# Altium schematic symbol library common-library.SchLib: 191 symbols
Pins are listed as number, name and electrical type; pins without a type are passive.

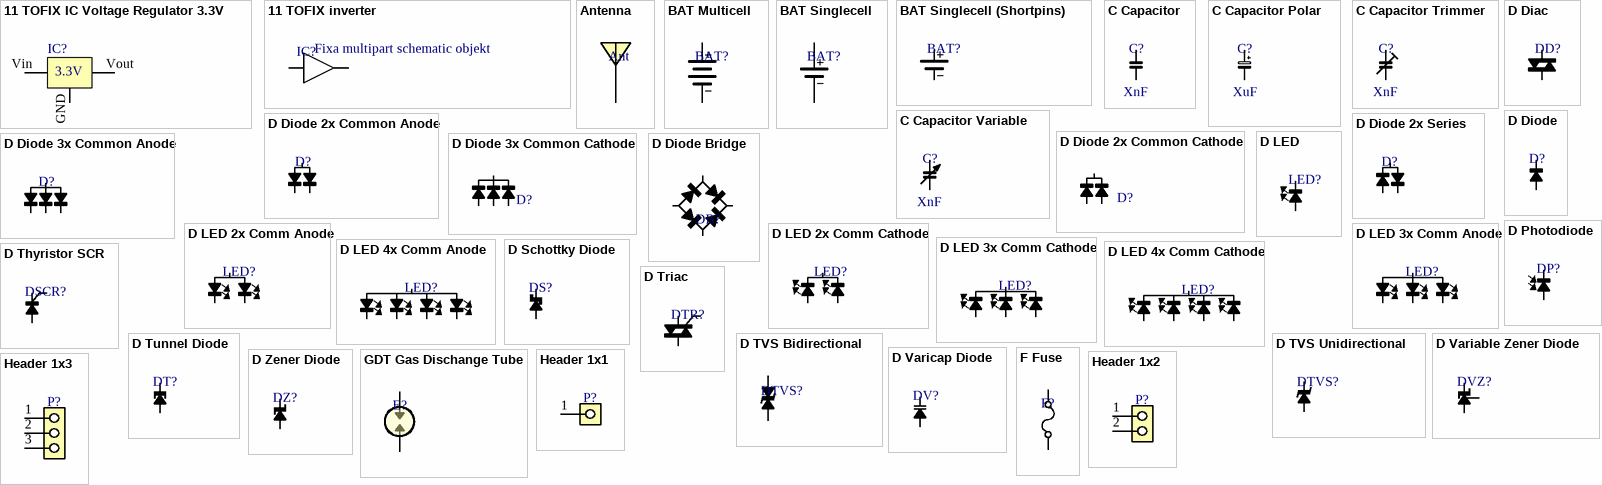
[diagram p0: symbols 11 TOFIX IC Voltage Regulator 3.3V to Header 1x3]

## 11 TOFIX IC Voltage Regulator 3.3V
designator IC?  value 3.3V
pins: GND, Vin, Vout

## 11 TOFIX inverter
designator IC?
pins: 1, 2
text: Fixa multipart schematic objekt

## Antenna
designator Ant
pins: 1 ANT

## BAT Multicell
designator BAT?
pins: 1, 2

## BAT Singlecell
designator BAT?
pins: 1, 2

## BAT Singlecell (Shortpins)
designator BAT?
pins: 1, 2

## C Capacitor
designator C?  value XnF
pins: 1, 2

## C Capacitor Polar
designator C?  value XuF
pins: 1, 2

## C Capacitor Trimmer
designator C?  value XnF
pins: 1, 2

## C Capacitor Variable
designator C?  value XnF
pins: 1, 2

## D Diac
designator DD?
pins: 1, 2

## D Diode
designator D?
pins: 1 K, 2 A

## D Diode 2x Common Anode
designator D?
pins: 1 K1, 2 K2, 3 A

## D Diode 2x Common Cathode
designator D?
pins: 1 A1, 2 A2, 3 K

## D Diode 2x Series
designator D?
pins: 1 K, 2 A, 3

## D Diode 3x Common Anode
designator D?
pins: 1 K1, 2 K2, 3 K3, 4 A

## D Diode 3x Common Cathode
designator D?
pins: 1 A1, 2 A2, 3 A3, 4 K

## D Diode Bridge
designator DB?
pins: 1, 2, 3, 4

## D LED
designator LED?
pins: 1 K, 2 A

## D LED 2x Comm Anode
designator LED?
pins: 1 K1, 2 K2, 3 A

## D LED 2x Comm Cathode
designator LED?
pins: 1 A1, 2 A2, 3 K

## D LED 3x Comm Anode
designator LED?
pins: 1 K1, 2 K2, 3 K3, 4 A

## D LED 3x Comm Cathode
designator LED?
pins: 1 A1, 2 A2, 3 A3, 4 K

## D LED 4x Comm Anode
designator LED?
pins: 1 K1, 2 K2, 3 K3, 4 K4, 5 A

## D LED 4x Comm Cathode
designator LED?
pins: 1 A1, 2 A2, 3 A3, 4 A4, 5 K

## D Photodiode
designator DP?
pins: 1 K, 2 A

## D Schottky Diode
designator DS?
pins: 1 K, 2 A

## D Thyristor SCR
designator DSCR?
pins: 1 C, 2 A, 3 G

## D Triac
designator DTR?
pins: 1, 2, 3

## D Tunnel Diode
designator DT?
pins: 1 K, 2 A

## D TVS Bidirectional
designator DTVS?
Value: 10V
pins: 1, 2

## D TVS Unidirectional
designator DTVS?
Value: 10V
pins: 1 K, 2 A

## D Variable Zener Diode
designator DVZ?
pins: 1 K, 1 K, 2 A

## D Varicap Diode
designator DV?
pins: 1 K, 2 A

## D Zener Diode
designator DZ?, comment BZX  (value not drawn)
Value: 10V
pins: 1 K, 2 A

## F Fuse
designator F?
pins: 1, 2

## GDT Gas Dischange Tube
designator E?  (value not drawn)
pins: 1, 2

## Header 1x1
designator P?
pins: 1

## Header 1x2
designator P?
pins: 1, 2

## Header 1x3
designator P?
pins: 1, 2, 3

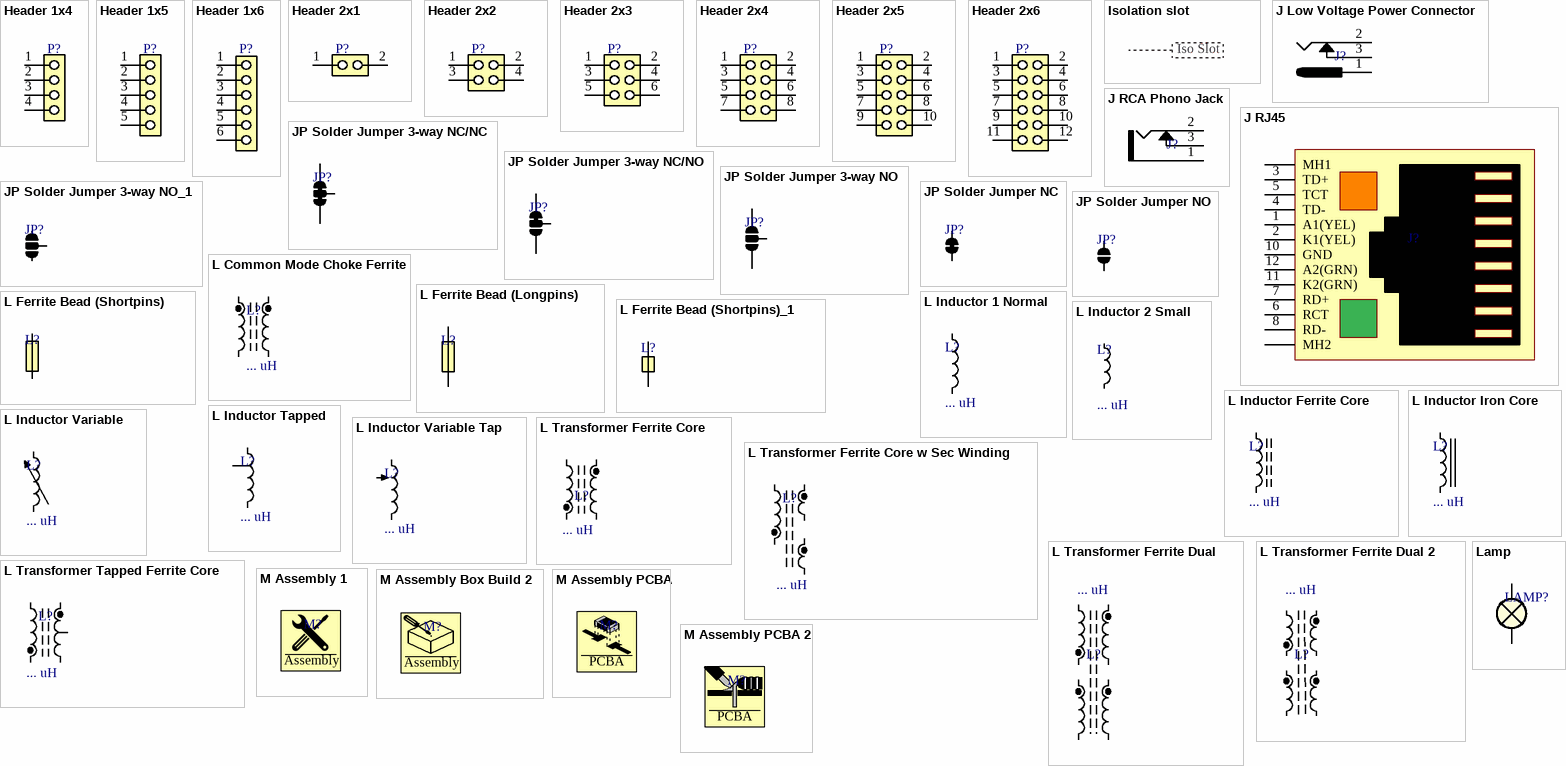
[diagram p1: symbols Header 1x4 to M Assembly PCBA 2]

## Header 1x4
designator P?
pins: 1, 2, 3, 4

## Header 1x5
designator P?
pins: 1, 2, 3, 4, 5

## Header 1x6
designator P?
pins: 1, 2, 3, 4, 5, 6

## Header 2x1
designator P?
pins: 1, 2

## Header 2x2
designator P?
pins: 1, 2, 3, 4

## Header 2x3
designator P?
pins: 1, 2, 3, 4, 5, 6

## Header 2x4
designator P?
pins: 1, 2, 3, 4, 5, 6, 7, 8

## Header 2x5
designator P?
pins: 1, 2, 3, 4, 5, 6, 7, 8, 9, 10

## Header 2x6
designator P?
pins: 1, 2, 3, 4, 5, 6, 7, 8, 9, 10, 11, 12

## Isolation slot
designator *  (value not drawn)  (mechanical)
text: Iso Slot

## J Low Voltage Power Connector
designator J?
pins: 1, 2, 3

## J RCA Phono Jack
designator J?
pins: 1, 2, 3

## J RJ45
designator J?  (value not drawn)
pins: 1 A1(YEL), 2 K1(YEL), 3 TD+, 4 TD-, 5 TCT, 6 RCT, 7 RD+, 8 RD-, 10 GND, 11 K2(GRN), 12 A2(GRN), MH1, MH2

## JP Solder Jumper 3-way NC/NC
designator JP?  (value not drawn)
pins: 1, 2, 3

## JP Solder Jumper 3-way NC/NO
designator JP?
pins: 1, 2, 3

## JP Solder Jumper 3-way NO
designator JP?
pins: 1, 2, 3

## JP Solder Jumper 3-way NO_1
designator JP?
pins: 1, 2, 3

## JP Solder Jumper NC
designator JP?
pins: 1, 2

## JP Solder Jumper NO
designator JP?
pins: 1, 2

## L Common Mode Choke Ferrite
designator L?  value ... uH
pins: 1, 2, 3, 4

## L Ferrite Bead (Longpins)
designator L?
Value: xxk
pins: 1, 2

## L Ferrite Bead (Shortpins)
designator L?
Value: xxk
pins: 1, 2

## L Ferrite Bead (Shortpins)_1
designator L?
Value: xxk
pins: 1, 2

## L Inductor 1 Normal
designator L?  value ... uH
pins: 1, 2

## L Inductor 2 Small
designator L?  value ... uH
pins: 1, 2

## L Inductor Ferrite Core
designator L?  value ... uH
pins: 1, 2

## L Inductor Iron Core
designator L?  value ... uH
pins: 1, 2

## L Inductor Tapped
designator L?  value ... uH
pins: 1, 2, 3

## L Inductor Variable
designator L?  value ... uH
pins: 1, 2

## L Inductor Variable Tap
designator L?  value ... uH
pins: 1, 2, 3

## L Transformer Ferrite Core
designator L?  value ... uH
pins: 1, 2, 3, 4

## L Transformer Ferrite Core w Sec Winding
designator L?  value ... uH
pins: 1, 2, 3, 4, 5, 6

## L Transformer Ferrite Dual
designator L?  value ... uH
pins: 1, 2, 3, 4, 5, 6, 7, 8

## L Transformer Ferrite Dual 2
designator L?  value ... uH
pins: 1, 2, 3, 4, 5, 6, 7, 8

## L Transformer Tapped Ferrite Core
designator L?  value ... uH
pins: 1, 2, 3, 4, 5

## Lamp
designator LAMP?
pins: 1, 2

## M Assembly 1
designator M?
text: Assembly

## M Assembly Box Build 2
designator M?
text: .; Assembly

## M Assembly PCBA
designator M?
text: PCBA

## M Assembly PCBA 2
designator M?
text: PCBA

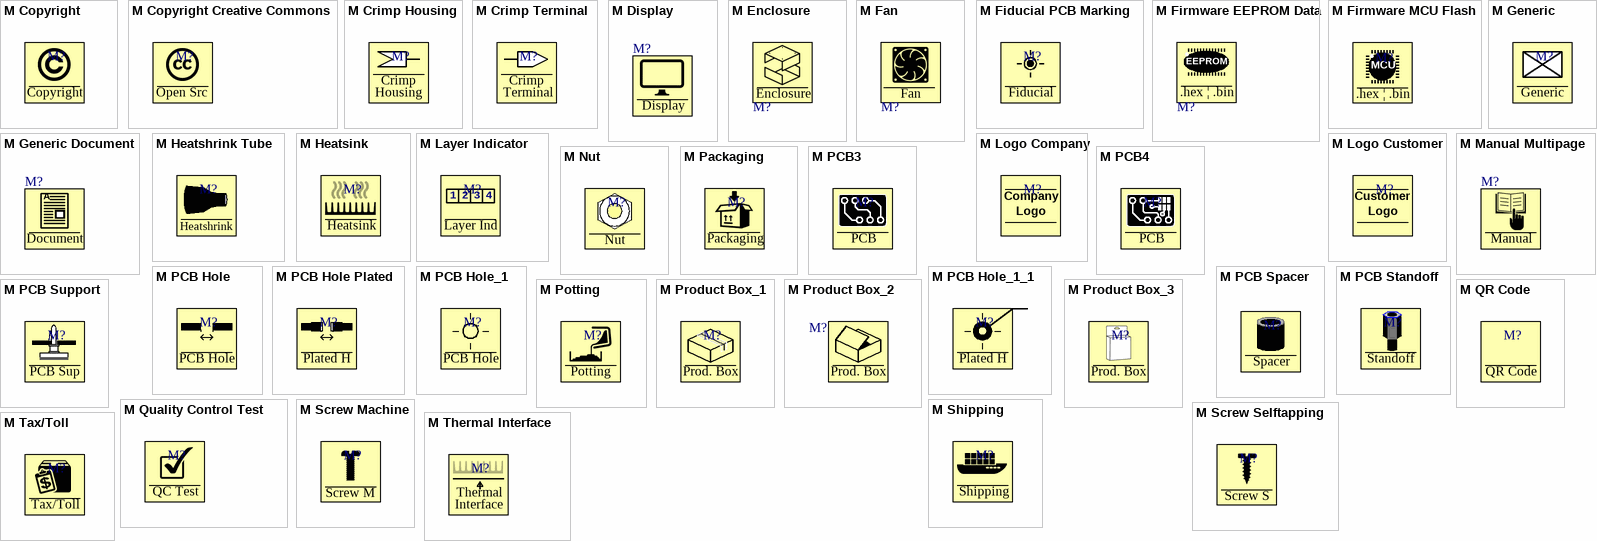
[diagram p2: symbols M Copyright to M Thermal Interface]

## M Copyright
designator M?
text: Copyright

## M Copyright Creative Commons
designator M?
text: Open Src

## M Crimp Housing
designator M?
text: Crimp; Housing

## M Crimp Terminal
designator M?
text: Crimp; Terminal

## M Display
designator M?
text: Display

## M Enclosure
designator M?
text: Enclosure

## M Fan
designator M?
text: Fan

## M Fiducial PCB Marking
designator M?
text: Fiducial

## M Firmware EEPROM Data
designator M?
text: EEPROM; .hex | .bin

## M Firmware MCU Flash
designator M?
text: MCU; .hex | .bin

## M Generic
designator M?
text: Generic

## M Generic Document
designator M?
text: A; Document

## M Heatshrink Tube
designator M?
text: Heatshrink

## M Heatsink
designator M?
text: Heatsink

## M Layer Indicator
designator M?
text: 1; 2; 3; 4; Layer Ind

## M Logo Company
designator M?
text: Company; Logo

## M Logo Customer
designator M?
text: Customer; Logo

## M Manual Multipage
designator M?
text: Manual

## M Nut
designator M?
text: Nut

## M Packaging
designator M?
text: Packaging

## M PCB3
designator M?
text: PCB

## M PCB4
designator M?
text: PCB

## M PCB Hole
designator M?
text: PCB Hole

## M PCB Hole Plated
designator M?
text: Plated H

## M PCB Hole_1
designator M?
text: PCB Hole

## M PCB Hole_1_1
designator M?
pins: 1
text: Plated H

## M PCB Spacer
designator M?
text: Spacer

## M PCB Standoff
designator M?
text: Standoff

## M PCB Support
designator M?
text: PCB Sup

## M Potting
designator M?
text: Potting

## M Product Box_1
designator M?
text: Prod. Box

## M Product Box_2
designator M?
text: Prod. Box

## M Product Box_3
designator M?
text: Prod. Box

## M QR Code
designator M?
text: QR Code

## M Quality Control Test
designator M?
text: QC Test

## M Screw Machine
designator M?
text: Screw M

## M Screw Selftapping
designator M?
text: Screw S

## M Shipping
designator M?
text: Shipping

## M Tax/Toll
designator M?
text: Tax/Toll

## M Thermal Interface
designator M?
text: Thermal; Interface

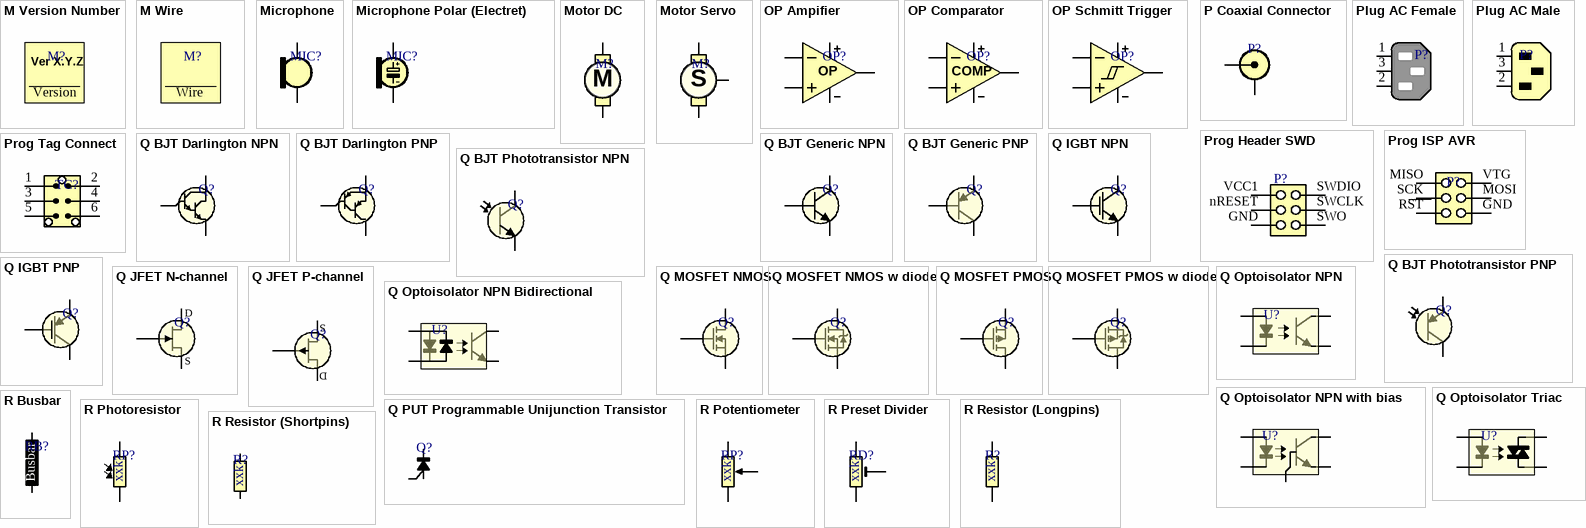
[diagram p3: symbols M Version Number to R Resistor (Shortpins)]

## M Version Number
designator M?
text: Ver X.Y.Z; Version

## M Wire
designator M?
text: Wire

## Microphone
designator MIC?
pins: 1, 2

## Microphone Polar (Electret)
designator MIC?
pins: 1, 2

## Motor DC
designator M?
pins: 1, 2
text: M

## Motor Servo
designator M?
pins: 1, 2, 3
text: S

## OP Ampifier
designator OP?
pins: 1 VDD, 2 VSS, 3 Vin-, 4 Vin+, 5 Vout
text: OP

## OP Comparator
designator OP?
pins: 1 VDD, 2 VSS, 3 Vin-, 4 Vin+, 5 Vout
text: COMP

## OP Schmitt Trigger
designator OP?
pins: 1 VDD, 2 VSS, 3 Vin-, 4 Vin+, 5 Vout

## P Coaxial Connector
designator P?
pins: 1, 2

## Plug AC Female
designator P?  (value not drawn)
pins: 1, 2, 3 GND

## Plug AC Male
designator P?  (value not drawn)
pins: 1, 2, 3 GND

## Prog Header SWD
designator P?
pins: GND 5, nRESET 3, SWCLK 4, SWDIO 2, SWO 6, VCC1 1

## Prog ISP AVR
designator P?
pins: GND 6, MISO 1, MOSI 4, RST 5, SCK 3, VTG 2

## Prog Tag Connect
designator TC?
pins: 1, 2, 3, 4, 5, 6

## Q BJT Darlington NPN
designator Q?
pins: 1 B, 2 E, 3 C

## Q BJT Darlington PNP
designator Q?
pins: 1 B, 2 E, 3 C

## Q BJT Generic NPN
designator Q?
pins: 1 B, 2 E, 3 C

## Q BJT Generic PNP
designator Q?
pins: 1 B, 2 E, 3 C

## Q BJT Phototransistor NPN
designator Q?
pins: 1 C, 2 E

## Q BJT Phototransistor PNP
designator Q?
pins: 1 E, 2 C

## Q IGBT NPN
designator Q?
pins: 1 B, 2 C, 3 E

## Q IGBT PNP
designator Q?
pins: 1 B, 2 E, 3 C

## Q JFET N-channel
designator Q?
pins: 1 G, 2 D, 3 S

## Q JFET P-channel
designator Q?
pins: 1 G, 2 S, 3 D

## Q MOSFET NMOS
designator Q?
pins: 1 G, 2 D, 3 S

## Q MOSFET NMOS w diode
designator Q?
pins: 1 G, 2 D, 3 S

## Q MOSFET PMOS
designator Q?
pins: 1 G, 2 S, 3 D

## Q MOSFET PMOS w diode
designator Q?
pins: 1 G, 2 S, 3 D

## Q Optoisolator NPN
designator U?
pins: 1 A, 2 K, 3 E, 4 C

## Q Optoisolator NPN Bidirectional
designator U?
pins: 1 A, 2 K, 3 E, 4 C

## Q Optoisolator NPN with bias
designator U?
pins: 1 A, 2 K, 3 E, 4 C, 5 B

## Q Optoisolator Triac
designator U?
pins: 1 A, 2 K, 3 T1, 4 T2

## Q PUT Programmable Unijunction Transistor
designator Q?
PUT
pins: A 1, AG 3, K 2

## R Busbar
designator RB?
pins: 1, 2
text: Busbar

## R Photoresistor
designator RP?  value xxk
pins: 1, 2

## R Potentiometer
designator RP?  value xxk
pins: 1, 2, 3

## R Preset Divider
designator RD?  value xxk
pins: 1, 2, 3

## R Resistor (Longpins)
designator R?  value xxk
pins: 1, 2

## R Resistor (Shortpins)
designator R?  value xxk
pins: 1, 2

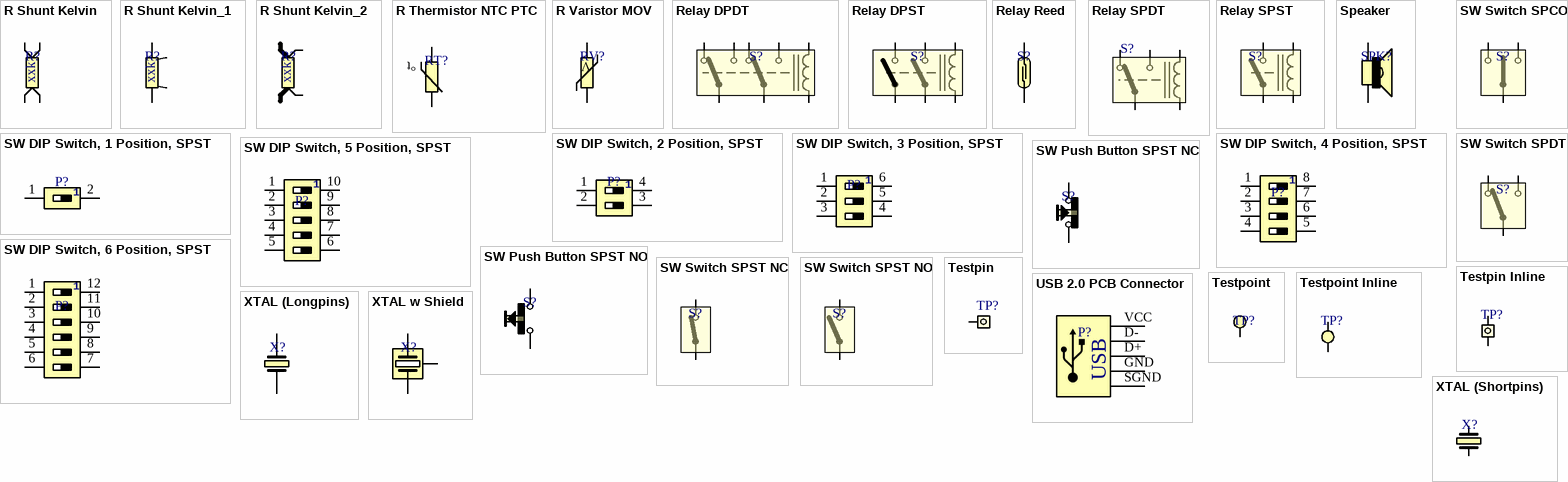
[diagram p4: symbols R Shunt Kelvin to XTAL w Shield]

## R Shunt Kelvin
designator R?  value xxk
pins: 1, 1, 2, 2

## R Shunt Kelvin_1
designator R?  value xxk
pins: 1, 1, 2, 2

## R Shunt Kelvin_2
designator R?  value xxk
pins: 1, 1, 2, 2

## R Thermistor NTC PTC
designator RT?
pins: 1, 2
text: °t

## R Varistor MOV
designator RV?
pins: 1, 2
text: V

## Relay DPDT
designator S?
pins: 1, 2, 3, 4, 5, 6, 7, 8

## Relay DPST
designator S?
pins: 1, 2, 3, 4, 5, 6

## Relay Reed
designator S?
pins: 1, 2

## Relay SPDT
designator S?
pins: 1, 2, 3, 4, 5

## Relay SPST
designator S?
pins: 1, 2, 3, 4

## Speaker
designator SPK?
pins: 1, 2

## SW DIP Switch, 1 Position, SPST
designator P?
pins: 1, 2

## SW DIP Switch, 2 Position, SPST
designator P?
pins: 1, 2, 3, 4

## SW DIP Switch, 3 Position, SPST
designator P?
footprint PIN pad:20mil hole:10mil
footprint PIN pad:30mil hole:15mil
footprint PIN pad:40mil hole:20mil
footprint PIN pad:50mil hole:25mil
footprint PIN pad:60mil hole:30mil - duplicate
pins: 1, 2, 3, 4, 5, 6

## SW DIP Switch, 4 Position, SPST
designator P?
pins: 1, 2, 3, 4, 5, 6, 7, 8

## SW DIP Switch, 5 Position, SPST
designator P?
pins: 1, 2, 3, 4, 5, 6, 7, 8, 9, 10

## SW DIP Switch, 6 Position, SPST
designator P?
pins: 1, 2, 3, 4, 5, 6, 7, 8, 9, 10, 11, 12

## SW Push Button SPST NC
designator S?
pins: 1, 2

## SW Push Button SPST NO
designator S?
pins: 1, 2

## SW Switch SPCO
designator S?
pins: 3, 4, 5

## SW Switch SPDT
designator S?
pins: 3, 4, 5

## SW Switch SPST NC
designator S?
pins: 1, 2

## SW Switch SPST NO
designator S?
pins: 3, 4

## Testpin
designator TP?
pins: 1

## Testpin Inline
designator TP?
pins: 1, 2

## Testpoint
designator TP?
pins: 1

## Testpoint Inline
designator TP?
pins: 1, 1

## USB 2.0 PCB Connector
designator P?
pins: D+ 3, D- 2, GND 4, SGND 4, VCC 1
text: USB

## XTAL (Longpins)
designator X?
pins: 1, 2

## XTAL (Shortpins)
designator X?
pins: 1, 2

## XTAL w Shield
designator X?
pins: 1, 1, 2